# EAGLE library part AUDIO_AMPLIFIER_TDA7491 (library ee_projects)
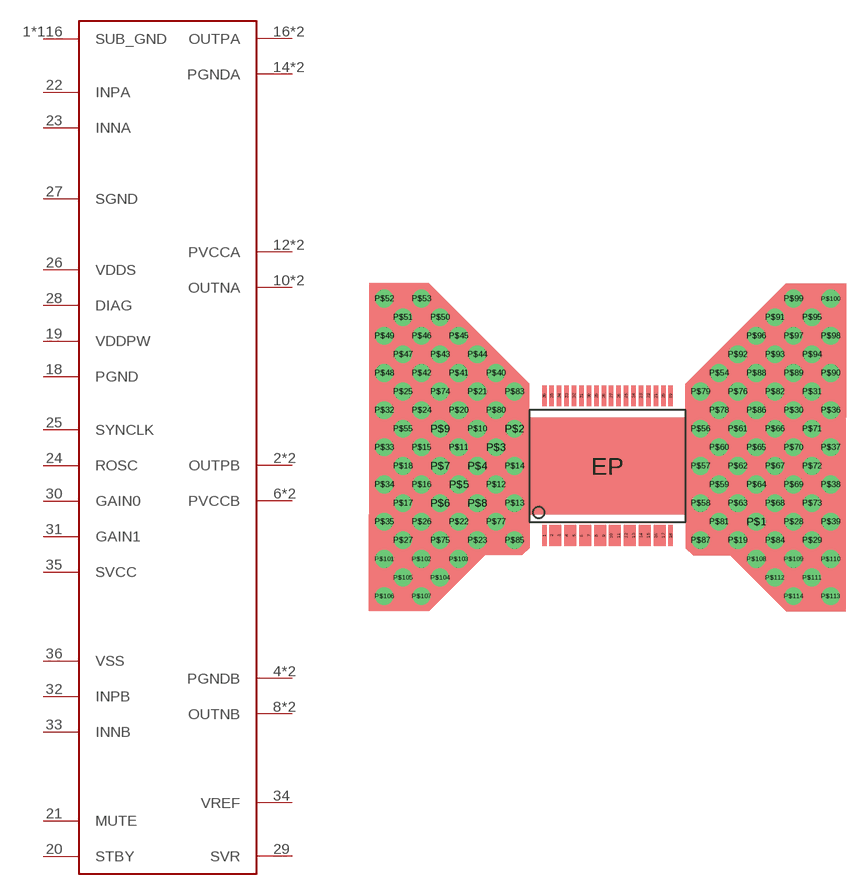
[diagram p0: symbol with the pads of POWERSSO-36-EP; footprint POWERSSO-36-EP]

Designator prefix -

## AUDIO_AMPLIFIER_TDA7491  [POWERSSO-36-EP]
1  SUB_GND
2  OUTPB
3  OUTPB
4  PGNDB
5  PGNDB
6  PVCCB
7  PVCCB
8  OUTNB
9  OUTNB
10  OUTNA
11  OUTNA
12  PVCCA
13  PVCCA
14  PGNDA
15  PGNDA
16  OUTPA
17  OUTPA
18  PGND
19  VDDPW
20  STBY
21  MUTE
22  INPA
23  INNA
24  ROSC
25  SYNCLK
26  VDDS
27  SGND
28  DIAG
29  SVR
30  GAIN0
31  GAIN1
32  INPB
33  INNB
34  VREF
35  SVCC
36  VSS
EP  SUB_GND
P$1  SUB_GND
P$2  SUB_GND
P$3  SUB_GND
P$4  SUB_GND
P$5  SUB_GND
P$6  SUB_GND
P$7  SUB_GND
P$8  SUB_GND
P$9  SUB_GND
P$10  SUB_GND
P$11  SUB_GND
P$12  SUB_GND
P$13  SUB_GND
P$14  SUB_GND
P$15  SUB_GND
P$16  SUB_GND
P$17  SUB_GND
P$18  SUB_GND
P$19  SUB_GND
P$20  SUB_GND
P$21  SUB_GND
P$22  SUB_GND
P$23  SUB_GND
P$24  SUB_GND
P$25  SUB_GND
P$26  SUB_GND
P$27  SUB_GND
P$28  SUB_GND
P$29  SUB_GND
P$30  SUB_GND
P$31  SUB_GND
P$32  SUB_GND
P$33  SUB_GND
P$34  SUB_GND
P$35  SUB_GND
P$36  SUB_GND
P$37  SUB_GND
P$38  SUB_GND
P$39  SUB_GND
P$40  SUB_GND
P$41  SUB_GND
P$42  SUB_GND
P$43  SUB_GND
P$44  SUB_GND
P$45  SUB_GND
P$46  SUB_GND
P$47  SUB_GND
P$48  SUB_GND
P$49  SUB_GND
P$50  SUB_GND
P$51  SUB_GND
P$52  SUB_GND
P$53  SUB_GND
P$54  SUB_GND
P$55  SUB_GND
P$56  SUB_GND
P$57  SUB_GND
P$58  SUB_GND
P$59  SUB_GND
P$60  SUB_GND
P$61  SUB_GND
P$62  SUB_GND
P$63  SUB_GND
P$64  SUB_GND
P$65  SUB_GND
P$66  SUB_GND
P$67  SUB_GND
P$68  SUB_GND
P$69  SUB_GND
P$70  SUB_GND
P$71  SUB_GND
P$72  SUB_GND
P$73  SUB_GND
P$74  SUB_GND
P$75  SUB_GND
P$76  SUB_GND
P$77  SUB_GND
P$78  SUB_GND
P$79  SUB_GND
P$80  SUB_GND
P$81  SUB_GND
P$82  SUB_GND
P$83  SUB_GND
P$84  SUB_GND
P$85  SUB_GND
P$86  SUB_GND
P$87  SUB_GND
P$88  SUB_GND
P$89  SUB_GND
P$90  SUB_GND
P$91  SUB_GND
P$92  SUB_GND
P$93  SUB_GND
P$94  SUB_GND
P$95  SUB_GND
P$96  SUB_GND
P$97  SUB_GND
P$98  SUB_GND
P$99  SUB_GND
P$100  SUB_GND
P$101  SUB_GND
P$102  SUB_GND
P$103  SUB_GND
P$104  SUB_GND
P$105  SUB_GND
P$106  SUB_GND
P$107  SUB_GND
P$108  SUB_GND
P$109  SUB_GND
P$110  SUB_GND
P$111  SUB_GND
P$112  SUB_GND
P$113  SUB_GND
P$114  SUB_GND

## Footprint POWERSSO-36-EP (pad centres in mm)
smd 0.305 x 1.422: 1 -4.318,-4.75; 2 -3.81,-4.75; 3 -3.302,-4.75; 4 -2.794,-4.75; 5 -2.286,-4.75; 6 -1.778,-4.75; 7 -1.27,-4.75; 8 -0.762,-4.75; 9 -0.254,-4.75; 10 0.254,-4.75; 11 0.762,-4.75; 12 1.27,-4.75; 13 1.778,-4.75; 14 2.286,-4.75; 15 2.794,-4.75; 16 3.302,-4.75; 17 3.81,-4.75; 18 4.318,-4.75; 19 4.318,4.801; 20 3.81,4.801; 21 3.302,4.801; 22 2.794,4.801; 23 2.286,4.801; 24 1.778,4.801; 25 1.27,4.801; 26 0.762,4.801; 27 0.254,4.801; 28 -0.254,4.801; 29 -0.762,4.801; 30 -1.27,4.801; 31 -1.778,4.801; 32 -2.286,4.801; 33 -2.794,4.801; 34 -3.302,4.801; 35 -3.81,4.801; 36 -4.318,4.801
smd 7.061 x 4.648: EP 0,0
drill 0.7: P$1 10.16,-3.81; P$2 -6.35,2.54; P$3 -7.62,1.27; P$4 -8.89,0; P$5 -10.16,-1.27; P$6 -11.43,-2.54; P$7 -11.43,0; P$8 -8.89,-2.54; P$9 -11.43,2.54; P$10 -8.89,2.54; P$11 -10.16,1.27; P$12 -7.62,-1.27; P$13 -6.35,-2.54; P$14 -6.35,0; P$15 -12.7,1.27; P$16 -12.7,-1.27; P$17 -13.97,-2.54; P$18 -13.97,0; P$19 8.89,-5.08; P$20 -10.16,3.81; P$21 -8.89,5.08; P$22 -10.16,-3.81; P$23 -8.89,-5.08; P$24 -12.7,3.81; P$25 -13.97,5.08; P$26 -12.7,-3.81; P$27 -13.97,-5.08; P$28 12.7,-3.81; P$29 13.97,-5.08; P$30 12.7,3.81; P$31 13.97,5.08; P$32 -15.24,3.81; P$33 -15.24,1.27; P$34 -15.24,-1.27; P$35 -15.24,-3.81; P$36 15.24,3.81; P$37 15.24,1.27; P$38 15.24,-1.27; P$39 15.24,-3.81; P$40 -7.62,6.35; P$41 -10.16,6.35; P$42 -12.7,6.35; P$43 -11.43,7.62; P$44 -8.89,7.62; P$45 -10.16,8.89; P$46 -12.7,8.89; P$47 -13.97,7.62; P$48 -15.24,6.35; P$49 -15.24,8.89; P$50 -11.43,10.16; P$51 -13.97,10.16; P$52 -15.24,11.43; P$53 -12.7,11.43; P$54 7.62,6.35; P$55 -13.97,2.54; P$56 6.35,2.54; P$57 6.35,0; P$58 6.35,-2.54; P$59 7.62,-1.27; P$60 7.62,1.27; P$61 8.89,2.54; P$62 8.89,0; P$63 8.89,-2.54; P$64 10.16,-1.27; P$65 10.16,1.27; P$66 11.43,2.54; P$67 11.43,0; P$68 11.43,-2.54; P$69 12.7,-1.27; P$70 12.7,1.27; P$71 13.97,2.54; P$72 13.97,0; P$73 13.97,-2.54; P$74 -11.43,5.08; P$75 -11.43,-5.08; P$76 8.89,5.08; P$77 -7.62,-3.81; P$78 7.62,3.81; P$79 6.35,5.08; P$80 -7.62,3.81; P$81 7.62,-3.81; P$82 11.43,5.08; P$83 -6.35,5.08; P$84 11.43,-5.08; P$85 -6.35,-5.08; P$86 10.16,3.81; P$87 6.35,-5.08; P$88 10.16,6.35; P$89 12.7,6.35; P$90 15.24,6.35; P$91 11.43,10.16; P$92 8.89,7.62; P$93 11.43,7.62; P$94 13.97,7.62; P$95 13.97,10.16; P$96 10.16,8.89; P$97 12.7,8.89; P$98 15.24,8.89; P$99 12.7,11.43; P$100 15.24,11.43; P$101 -15.24,-6.35; P$102 -12.7,-6.35; P$103 -10.16,-6.35; P$104 -11.43,-7.62; P$105 -13.97,-7.62; P$106 -15.24,-8.89; P$107 -12.7,-8.89; P$108 10.16,-6.35; P$109 12.7,-6.35; P$110 15.24,-6.35; P$111 13.97,-7.62; P$112 11.43,-7.62; P$113 15.24,-8.89; P$114 12.7,-8.89